# Altium integrated library Sources$.IntLib: 40 symbols
Pins are listed as number, name and electrical type; pins without a type are passive.

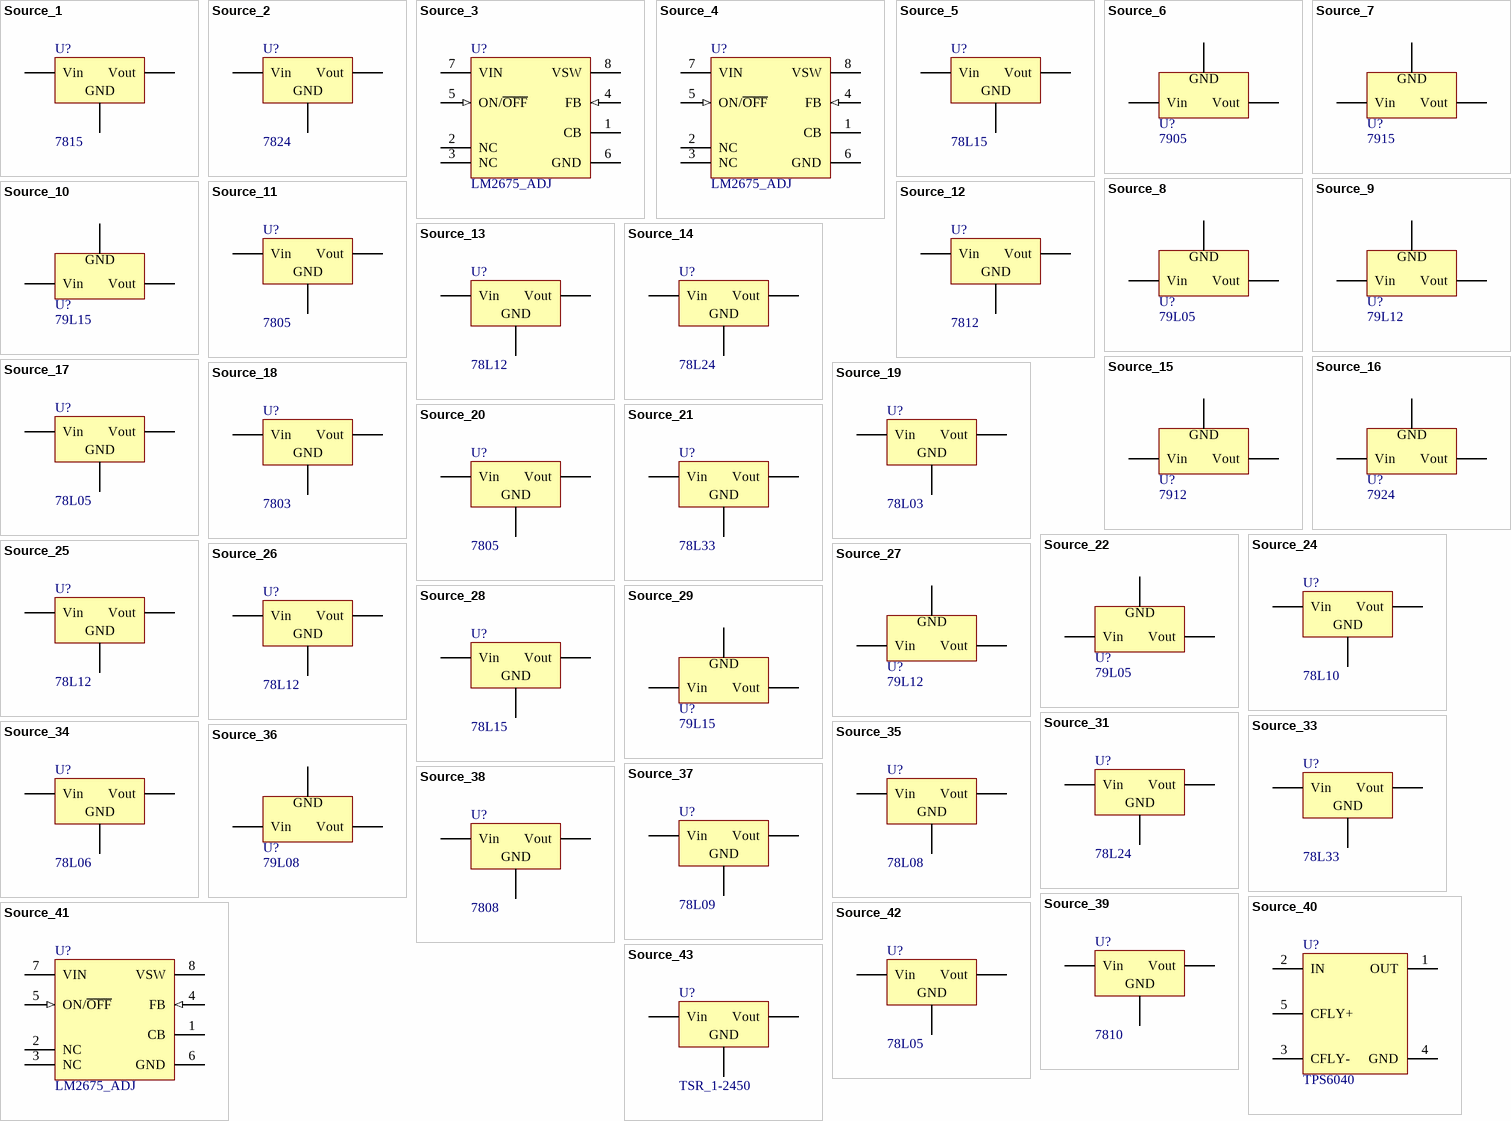
[diagram p0: symbols Source_1 to Source_43]

## Source_1
designator U?, comment 7815
RS_number: 298-8558; QR: 1; Voltage: 15 V; Current: 1.5 A; UID: Source_1; Name: 7815; Name_Hyperlink: IC L7815CV; ComponentLink1URL: #NAME?; mounting: THT
footprint TO_220
pins: 1 Vin, 2 GND, 3 Vout

## Source_2
designator U?, comment 7824
RS_number: 298-8564; QR: 1; Voltage: 24 V; Current: 1.5 A; UID: Source_2; Name: 7824; Name_Hyperlink: IC L7824CV; ComponentLink1URL: #NAME?; mounting: THT
footprint TO_220
pins: 1 Vin, 2 GND, 3 Vout

## Source_3
designator U?, comment LM2675_ADJ
QR: 0; Voltage: var V; Current: 1.0 A; UID: Source_3; Name: LM2675_ADJ; mounting: SMD
footprint SO_8
pins: 1 CB, 2 NC, 3 NC, 4 FB (in), 5 ON/~{OFF} (in), 6 GND (power), 7 VIN (power), 8 VSW (power)

## Source_4
designator U?, comment LM2675_ADJ
RS_number: 533-8142P; QR: 1; Voltage: var V; Current: 1.0 A; UID: Source_4; Name: LM2675_ADJ; Name_Hyperlink: IC LM2675N-ADJ; ComponentLink1URL: #NAME?; mounting: THT
footprint DIP_8
pins: 1 CB, 2 NC, 3 NC, 4 FB (in), 5 ON/~{OFF} (in), 6 GND (power), 7 VIN (power), 8 VSW (power)

## Source_5
designator U?, comment 78L15
RS_number: 535-9997; QR: 1; Voltage: 15 V; Current: 0.1 A; UID: Source_5; Name: 78L15; Name_Hyperlink: IC LM78L15ACZ 15; ComponentLink1URL: #NAME?; mounting: THT
footprint TO_92
pins: 1 Vout, 2 GND, 3 Vin

## Source_6
designator U?, comment 7905
RS_number: 534-3885; QR: 1; Voltage: -5 V; Current: 2.2A; UID: Source_6; Name: 7905; Name_Hyperlink: IC LM7905CT; ComponentLink1URL: #NAME?; mounting: THT
footprint TO_220
pins: 1 GND, 2 Vin, 3 Vout

## Source_7
designator U?, comment 7915
RS_number: 534-3914; QR: 1; Voltage: -15 V; Current: 2.2A; UID: Source_7; Name: 7915; Name_Hyperlink: IC LM7915CT -15V; ComponentLink1URL: #NAME?; mounting: THT
footprint TO_220
pins: 1 GND, 2 Vin, 3 Vout

## Source_8
designator U?, comment 79L05
RS_number: 536-0004; QR: 1; Voltage: -5 V; Current: 0.1 A; UID: Source_8; Name: 79L05; Name_Hyperlink: IC LM79L05ACZ; ComponentLink1URL: #NAME?; mounting: THT
footprint TO_92
pins: 1 GND, 2 Vin, 3 Vout

## Source_9
designator U?, comment 79L12
RS_number: 536-0010; QR: 1; Voltage: -12 V; Current: 0.1 A; UID: Source_9; Name: 79L12; Name_Hyperlink: IC LM79L12ACZ; ComponentLink1URL: #NAME?; mounting: THT
footprint TO_92
pins: 1 GND, 2 Vin, 3 Vout

## Source_10
designator U?, comment 79L15
RS_number: 536-0026; QR: 1; Voltage: -15 V; Current: 0.1 A; UID: Source_10; Name: 79L15; Name_Hyperlink: IC LM79L15ACZ; ComponentLink1URL: #NAME?; mounting: THT
footprint TO_92
pins: 1 GND, 2 Vin, 3 Vout

## Source_11
designator U?, comment 7805
RS_number: 516-4799; QR: 1; Voltage: 5 V; Current: 2.2A; UID: Source_11; Name: 7805; Name_Hyperlink: IC MC7805CT; ComponentLink1URL: #NAME?; mounting: THT
footprint TO_220
pins: 1 Vin, 2 GND, 3 Vout

## Source_12
designator U?, comment 7812
RS_number: 516-4834; QR: 1; Voltage: 12 V; Current: 2.2A; UID: Source_12; Name: 7812; Name_Hyperlink: IC MC7812CT; ComponentLink1URL: #NAME?; mounting: THT
footprint TO_220
pins: 1 Vin, 2 GND, 3 Vout

## Source_13
designator U?, comment 78L12
RS_number: 516-5764; QR: 1; Voltage: 15 V; Current: 0.1 A; UID: Source_13; Name: 78L12; Name_Hyperlink: IC MC78L12ACPG; ComponentLink1URL: #NAME?; mounting: THT
footprint TO_92
pins: 1 Vout, 2 GND, 3 Vin

## Source_14
designator U?, comment 78L24
RS_number: 516-4755; QR: 1; Voltage: 24 V; Current: 0.1 A; UID: Source_14; Name: 78L24; Name_Hyperlink: IC MC78L24ACPG; ComponentLink1URL: #NAME?; mounting: THT
footprint TO_92
pins: 1 Vout, 2 GND, 3 Vin

## Source_15
designator U?, comment 7912
RS_number: 516-6212; QR: 1; Voltage: -12 V; Current: 1.0 A; UID: Source_15; Name: 7912; Name_Hyperlink: IC MC7912CT; ComponentLink1URL: #NAME?; mounting: THT
footprint TO_220
pins: 1 GND, 2 Vin, 3 Vout

## Source_16
designator U?, comment 7924
RS_number: 516-4913; QR: 1; Voltage: -24 V; Current: 1.0 A; UID: Source_16; Name: 7924; Name_Hyperlink: IC MC7924CT; ComponentLink1URL: #NAME?; mounting: THT
footprint TO_220
pins: 1 GND, 2 Vin, 3 Vout

## Source_17
designator U?, comment 78L05
RS_number: 810-295; QR: 1; Voltage: 5 V; Current: 0.1 A; UID: Source_17; Name: 78L05; Name_Hyperlink: IC UA78L05ACLP; ComponentLink1URL: #NAME?; mounting: THT
footprint TO_92
pins: 1 Vout, 2 GND, 3 Vin

## Source_18
designator U?, comment 7803
RS_number: 239-3023; QR: 1; Voltage: 3 V; Current: 1.0 A; UID: Source_18; Name: 7803; Name_Hyperlink: IC BA03T_7803; ComponentLink1URL: #NAME?; mounting: THT
footprint TO_220
pins: 1 Vin, 2 GND, 3 Vout

## Source_19
designator U?, comment 78L03
RS_number: 398-530; QR: 1; Voltage: 3 V; Current: 0.25 A; UID: Source_19; Name: 78L03; Name_Hyperlink: IC TS9011PCT A3_7803; ComponentLink1URL: #NAME?; mounting: THT
footprint TO_92
pins: 1 GND, 2 Vin, 3 Vout

## Source_20
designator U?, comment 7805
RS_number: 263-9795; QR: 1; Voltage: 5 V; Current: 1.0 A; UID: Source_20; Name: 7805; Name_Hyperlink: SMD_IC BA17805FP-E2; ComponentLink1URL: #NAME?; mounting: SMD
footprint TO_252
pins: 1 Vin, 2 Vout, 3 GND

## Source_21
designator U?, comment 78L33
RS_number: 516-5089; QR: 1; Voltage: 3.3 V; Current: 0.8 A; UID: Source_21; Name: 78L33; Name_Hyperlink: SMD_IC MC33269D3,3; ComponentLink1URL: #NAME?; mounting: SMD
footprint SO_8
pins: 1 Vout, 2 GND, 3 GND, 6 GND, 7 GND, 8 Vin

## Source_22
designator U?, comment 79L05
RS_number: 516-6161; QR: 1; Voltage: -5 V; Current: 0.1 A; UID: Source_22; Name: 79L05; Name_Hyperlink: SMD_IC MC79L05ACD; ComponentLink1URL: #NAME?; mounting: SMD
footprint SO_8
pins: 1 Vout, 2 Vin, 3 Vin, 5 GND, 6 Vin, 7 Vin

## Source_24
designator U?, comment 78L10
RS_number: 661-6724; QR: 1; Voltage: 10 V; Current: 0.1 A; UID: Source_24; Name: 78L10; Name_Hyperlink: SMD_Spannungsregler 10V 0,1A; ComponentLink1URL: #NAME?; mounting: SMD
footprint SO_8
pins: 1 Vout, 2 GND, 3 GND, 6 GND, 7 GND, 8 Vin

## Source_25
designator U?, comment 78L12
RS_number: 661-6727; QR: 1; Voltage: 12 V; Current: 0.1 A; UID: Source_25; Name: 78L12; Name_Hyperlink: SMD_Spannungsregler 12V 0,1A; ComponentLink1URL: #NAME?; mounting: SMD
footprint SO_8
pins: 1 Vout, 2 GND, 3 GND, 6 GND, 7 GND, 8 Vin

## Source_26
designator U?, comment 78L12
RS_number: 686-9612; QR: 1; Voltage: 12 V; Current: 0.1 A; UID: Source_26; Name: 78L12; Name_Hyperlink: SMD_Spannungsregler 12V 0,1A SOIC8; ComponentLink1URL: #NAME?; mounting: SMD
footprint SO_8
pins: 1 Vout, 2 GND, 3 GND, 6 GND, 7 GND, 8 Vin

## Source_27
designator U?, comment 79L12
RS_number: 686-9549; QR: 1; Voltage: -12 V; Current: 0.1 A; UID: Source_27; Name: 79L12; Name_Hyperlink: SMD_Spannungsregler -12V 0,1A SOIC8; ComponentLink1URL: #NAME?; mounting: SMD
footprint SO_8
pins: 1 Vout, 2 Vin, 3 Vin, 5 GND, 6 Vin, 7 Vin

## Source_28
designator U?, comment 78L15
RS_number: 686-9495; QR: 1; Voltage: 15 V; Current: 0.1 A; UID: Source_28; Name: 78L15; Name_Hyperlink: SMD_Spannungsregler 15V 0,1A SOIC8; ComponentLink1URL: #NAME?; mounting: SMD
footprint SO_8
pins: 1 Vout, 2 GND, 3 GND, 6 GND, 7 GND, 8 Vin

## Source_29
designator U?, comment 79L15
RS_number: 686-9546; QR: 1; Voltage: -15 V; Current: 0.1 A; UID: Source_29; Name: 79L15; Name_Hyperlink: SMD_Spannungsregler -15V 0,1A SOIC8; ComponentLink1URL: #NAME?; mounting: SMD
footprint SO_8
pins: 1 Vout, 2 Vin, 3 Vin, 5 GND, 6 Vin, 7 Vin

## Source_31
designator U?, comment 78L24
RS_number: 686-9482; QR: 1; Voltage: 15 V; Current: 0.1 A; UID: Source_31; Name: 78L24; Name_Hyperlink: SMD_Spannungsregler 24V 0,1A SOIC8; ComponentLink1URL: #NAME?; mounting: SMD
footprint SO_8
pins: 1 Vout, 2 GND, 3 GND, 6 GND, 7 GND, 8 Vin

## Source_33
designator U?, comment 78L33
RS_number: 686-9515; QR: 1; Voltage: 3.3 V; Current: 0.1 A; UID: Source_33; Name: 78L33; Name_Hyperlink: SMD_Spannungsregler 3,3V 0,1A SOIC8; ComponentLink1URL: #NAME?; mounting: SMD
footprint SO_8
pins: 1 Vout, 2 GND, 3 GND, 6 GND, 7 GND, 8 Vin

## Source_34
designator U?, comment 78L06
RS_number: 686-9619; QR: 1; Voltage: 6 V; Current: 0.1 A; UID: Source_34; Name: 78L06; Name_Hyperlink: SMD_Spannungsregler 6V 0,1A SOIC8; ComponentLink1URL: #NAME?; mounting: SMD
footprint SO_8
pins: 1 Vout, 2 GND, 3 GND, 6 GND, 7 GND, 8 Vin

## Source_35
designator U?, comment 78L08
RS_number: 686-9599; QR: 1; Voltage: 8 V; Current: 0.1 A; UID: Source_35; Name: 78L08; Name_Hyperlink: SMD_Spannungsregler 8V 0,1A SOIC8; ComponentLink1URL: #NAME?; mounting: SMD
footprint SO_8
pins: 1 Vout, 2 GND, 3 GND, 6 GND, 7 GND, 8 Vin

## Source_36
designator U?, comment 79L08
RS_number: 686-9537; QR: 1; Voltage: -8 V; Current: 0.1 A; UID: Source_36; Name: 79L08; Name_Hyperlink: SMD_Spannungsregler -8V 0,1A SOIC8; ComponentLink1URL: #NAME?; mounting: SMD
footprint SO_8
pins: 1 Vout, 2 Vin, 3 Vin, 5 GND, 6 Vin, 7 Vin

## Source_37
designator U?, comment 78L09
RS_number: 686-9518; QR: 1; Voltage: 9 V; Current: 0.1 A; UID: Source_37; Name: 78L09; Name_Hyperlink: SMD_Spannungsregler 9V 0,1A SOIC8; ComponentLink1URL: #NAME?; mounting: SMD
footprint SO_8
pins: 1 Vout, 2 GND, 3 GND, 6 GND, 7 GND, 8 Vin

## Source_38
designator U?, comment 7808
RS_number: 263-9802; QR: 1; Voltage: 8 V; Current: 1.0 A; UID: Source_38; Name: 7808; Name_Hyperlink: SMD_Spannungsregler BA17808F; ComponentLink1URL: #NAME?; mounting: SMD
footprint TO_252
pins: 1 Vin, 2 Vout, 3 GND

## Source_39
designator U?, comment 7810
RS_number: 263-9818; QR: 1; Voltage: 10 V; Current: 1.0 A; UID: Source_39; Name: 7810; Name_Hyperlink: SMD_Spannungsregler BA17810; ComponentLink1URL: #NAME?; mounting: SMD
footprint TO_252
pins: 1 Vin, 2 Vout, 3 GND

## Source_40
designator U?, comment TPS6040
RS_number: 517-1208; QR: 0; Voltage: -1.6V bis -5.25V; Current: 0A06; UID: Source_40; Name: TPS6040; Name_Hyperlink: http://at.rs-online.com/web/p/ladungspumpen/5171208/?searchTerm=5171208&relevancy-data=636F3D3126696E3D4931384E525353746F636B4E756D6265724D504E266C753D656E266D6D3D6D61746368616C6C26706D3D5E5C647B367D247C5E5C647B377D247C5E5C647B31307D2426706F3D313426736E3D; ComponentLink1URL: #NAME?; mounting: SMD
footprint SOT_23_5p
pins: 1 OUT, 2 IN, 3 CFLY-, 4 GND, 5 CFLY+

## Source_41
designator U?, comment LM2675_ADJ
Name: LM2675_5V0; RS_number: 533-5042; QR: 0; Voltage: 5V0; Current: 1A; UID: Source_41; Name_Hyperlink: IC LM2675M-5,0; ComponentLink1URL: #NAME?; mounting: SMD
footprint SO_8
pins: 1 CB, 2 NC, 3 NC, 4 FB (in), 5 ON/~{OFF} (in), 6 GND (power), 7 VIN (power), 8 VSW (power)

## Source_42
designator U?, comment 78L05
RS_number: 527-176; QR: 0; Voltage: 5 V; Current: 0.1 A; UID: Source_42; Name: 78L05; Name_Hyperlink: http://at.rs-online.com/web/p/spannungs-linearregler/0527176/?searchTerm=527176&relevancy-data=636F3D3126696E3D4931384E525353746F636B4E756D6265724D504E266C753D656E266D6D3D6D61746368616C6C26706D3D5E5C647B367D247C5E5C647B377D247C5E5C647B31307D2426706F3D3134; ComponentLink1URL: #NAME?; mounting: SMD
footprint SOT_89
pins: 1 Vout, 2 GND, 3 Vin

## Source_43
designator U?, comment TSR_1-2450
RS_number: 666-4379; QR: 0; Voltage: 5 V; Current: 1A; UID: Source_43; Name: TSR_1-2450; Name_Hyperlink: http://at.rs-online.com/web/p/schaltregler/6664379/?searchTerm=6664379&relevancy-data=636F3D3126696E3D4931384E525353746F636B4E756D6265724D504E266C753D656E266D6D3D6D61746368616C6C26706D3D5E5C647B367D247C5E5C647B377D247C5E5C647B31307D2426706F3D313426736E3D5; ComponentLink1URL: #NAME?; mounting: THT
footprint TSR_1-2450
pins: 1 Vin, 2 GND, 3 Vout